# Altium footprint library NCP1117.PcbLib: 2 footprints
Each footprint in its own frame and in the unit in brackets; x right, y up, seen from the top. Pads: shape width x height; smd on the part's side, far side on the other; paste and mask are expansions set on the pad; w line width, h text height; cw(c..) or ccw(c..) is an arc to the next point about the centre after c.
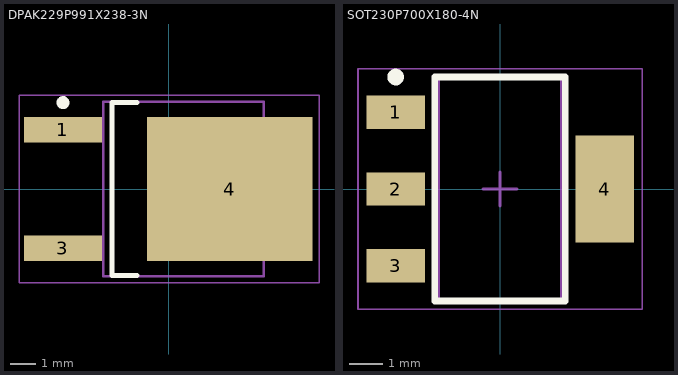
[diagram p0: the footprints below, top view; thin cyan lines are the x and y axes]

## DPAK229P991X238-3N [mm] "D-PAK, 3-Pads, Body 6.21x6.73mm (max), IPC Medium Density"
height 2.38
pads (3):
  rect 3x1 smd: 1(-4.1,2.29) 3(-4.1,-2.29)
  rect 6.4x5.55 smd: 4(2.35,0)
Top Overlay:
  circle w0.25: c-4.1,3.34 r0.125
  lines w0.2: -1.25,-3.35 -2.2,-3.35 -2.2,3.35 -1.25,3.35
Mechanical 13:
  lines w0.1: -2.55,-3.375 -2.55,3.375 3.67,3.375 3.67,-3.375 -2.55,-3.375
Mechanical 15:
  lines w0.05: -5.8,-3.625 -5.8,3.625 5.8,3.625 5.8,-3.625 -5.8,-3.625
  lines w0.1: -0.5,0 0.5,0 ; 0,-0.5 0,0.5
3D body "DPAK229P991X238-3N.step": height 2.84, standoff 0, extent -4.6,-3.375 5.305,3.375

## SOT230P700X180-4N [mm] "SOT223, 4-Leads, Body 6.50x7.00mm (avg), Pitch 2.30mm, IPC Medium Density"
height 1.8
pads (4):
  rect 1.75x1 smd: 1(-3.125,2.3) 2(-3.125,0) 3(-3.125,-2.3)
  rect 1.75x3.2 smd: 4(3.125,0)
Top Overlay:
  circle w0.25: c-3.125,3.35 r0.125
  lines w0.2: -1.95,-3.35 1.95,-3.35 1.95,3.35 -1.95,3.35 -1.95,-3.35
Mechanical 13:
  lines w0.1: -1.85,-3.35 1.85,-3.35 1.85,3.35 -1.85,3.35 -1.85,-3.35
Mechanical 15:
  lines w0.05: -4.25,-3.6 4.25,-3.6 4.25,3.6 -4.25,3.6 -4.25,-3.6
  lines w0.1: -0.5,0 0.5,0 ; 0,-0.5 0,0.5
3D body "SOT230P700X180-4N.step": height 1.8, standoff 0, extent -3.5,-3.35 3.5,3.35